# Altium schematic symbol library USB_CTRL.SchLib: 1 symbol
Pins are listed as number, name and electrical type; pins without a type are passive.

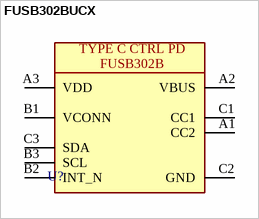
[diagram p0: symbol FUSB302BUCX]

## FUSB302BUCX
designator U?
-40℃~+85℃ 2.8V~5.5V Controller WLCSP-9(1.2x1.3) USB Converters ROHS; Manufacturer 1: onsemi; Manufacturer Part Number 1: FUSB302BUCX; Package: WLCSP-9(1.2x1.3); Supplier 1: *; Supplier Part Number 1: *
footprint FUSB302BUCX (-40℃~+85℃ 2.8V~5.5V Controller WLCSP-9(1.2x1.3) USB Converters ROHS)
pins: A1 CC2, A2 VBUS, A3 VDD, B1 VCONN, B2 INT_N, B3 SCL, C1 CC1, C2 GND, C3 SDA
text: TYPE C CTRL PD; FUSB302B